# Altium footprint library TO254P470X1000X1870-3P.PcbLib: 1 footprints
Each footprint in its own frame and in the unit in brackets; x right, y up, seen from the top. Pads: shape width x height; smd on the part's side, far side on the other; paste and mask are expansions set on the pad; w line width, h text height; cw(c..) or ccw(c..) is an arc to the next point about the centre after c.
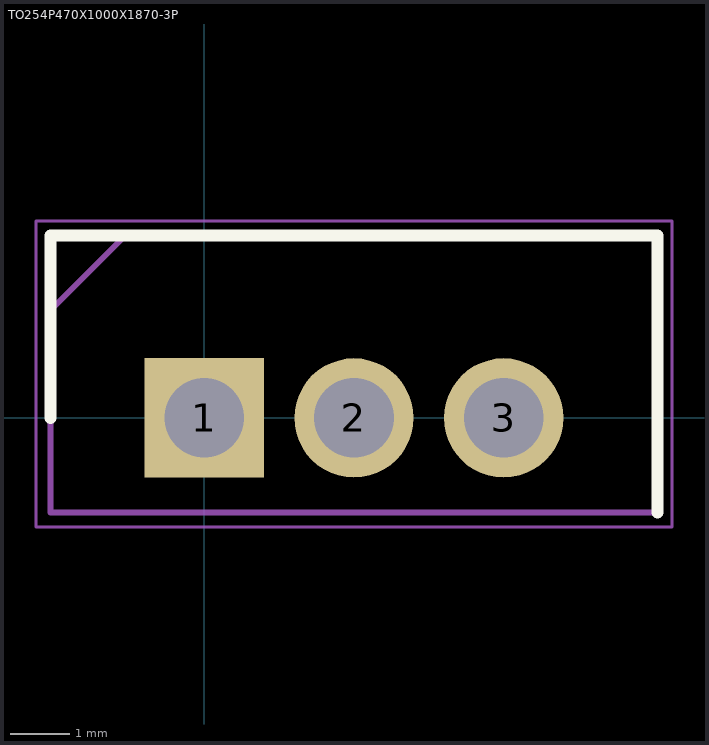
[diagram p0: the footprint, top view; thin cyan lines are the x and y axes]

## TO254P470X1000X1870-3P [mm]
pads (3):
  rect 2.025x2.025 / inner round 2.025 / far side rect 2.025x2.025 hole 1.35: 1(0,0)
  round 2.025 hole 1.35: 2(2.54,0) 3(5.08,0)
Top Overlay:
  lines w0.2: -2.61,0 -2.61,3.095 7.69,3.095 7.69,-1.605
Mechanical 15:
  lines w0.1: -2.61,1.825 -1.34,3.095 ; -2.61,-1.605 7.69,-1.605 7.69,3.095 -2.61,3.095 -2.61,-1.605
Mechanical 20:
  lines w0.05: -2.86,-1.855 7.94,-1.855 7.94,3.345 -2.86,3.345 -2.86,-1.855